# Altium footprint library OffTheClock.PcbLib: 26 footprints (part 2 of 2)
Each footprint in its own frame and in the unit in brackets; x right, y up, seen from the top. Pads: shape width x height; smd on the part's side, far side on the other; paste and mask are expansions set on the pad; w line width, h text height; cw(c..) or ccw(c..) is an arc to the next point about the centre after c.
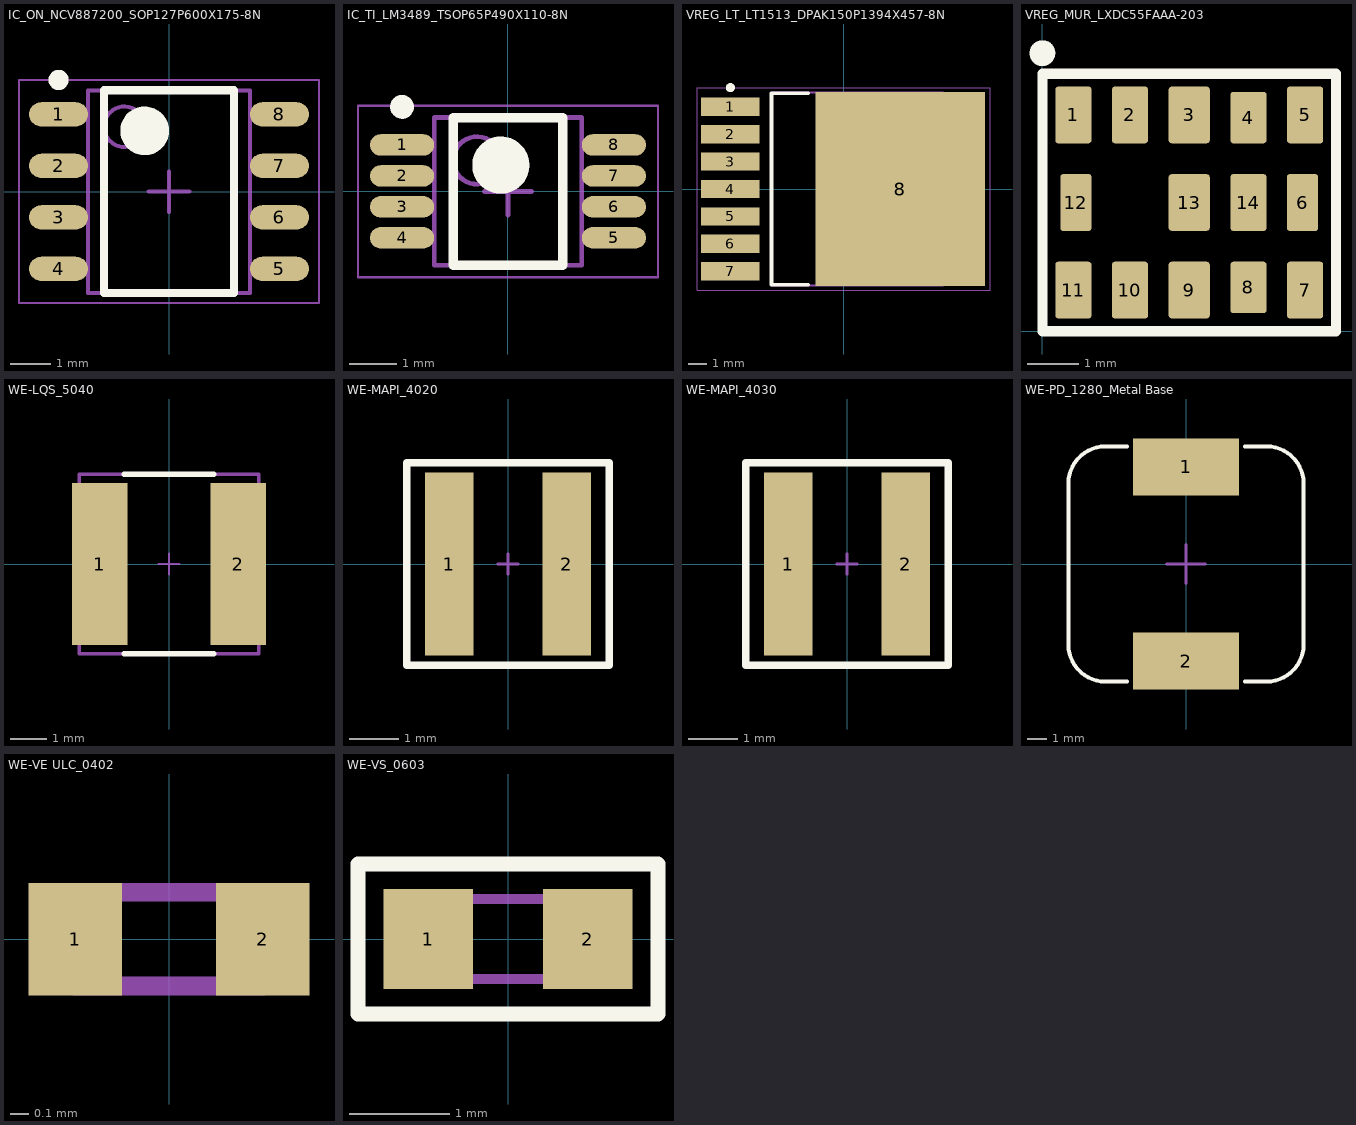
[diagram p1: the footprints below, top view; thin cyan lines are the x and y axes]

## IC_ON_NCV887200_SOP127P600X175-8N [mm] "SOP, 8-Leads, Body 4.90x3.90mm, Pitch 1.27mm, IPC Medium Density"
height 1.75
pads (8):
  oval 1.45x0.6 smd: 1(-2.725,1.905) 2(-2.725,0.635) 3(-2.725,-0.635) 4(-2.725,-1.905) 5(2.725,-1.905) 6(2.725,-0.635) 7(2.725,0.635) 8(2.725,1.905)
Top Overlay:
  circle w0.6: c-0.6,1.5 r0.3
  circle w0.25: c-2.725,2.755 r0.125
  lines w0.2: -1.6,-2.5 1.6,-2.5 1.6,2.5 -1.6,2.5 -1.6,-2.5
Mechanical 13:
  circle w0.1: c-1.1,1.6 r0.5
  lines w0.1: -2,-2.5 2,-2.5 2,2.5 -2,2.5 -2,-2.5
Mechanical 15:
  lines w0.05: -3.7,-2.75 3.7,-2.75 3.7,2.75 -3.7,2.75 -3.7,-2.75
  lines w0.1: -0.5,0 0.5,0 ; 0,-0.5 0,0.5
3D body: height 1.75, standoff 0.1, extent -2,-2.5 2,2.5

## IC_TI_LM3489_TSOP65P490X110-8N [mm] "TSOP, 8-Leads, Body 3.00x3.00mm, Pitch 0.65mm, IPC Medium Density"
height 1.1
pads (8):
  oval 1.35x0.45 smd: 1(-2.225,0.975) 2(-2.225,0.325) 3(-2.225,-0.325) 4(-2.225,-0.975) 5(2.225,-0.975) 6(2.225,-0.325) 7(2.225,0.325) 8(2.225,0.975)
Top Overlay:
  circle w0.25: c-2.225,1.775 r0.125
  circle w0.6: c-0.15,0.55 r0.3
  lines w0.2: -1.15,-1.55 -1.15,1.55 1.15,1.55 1.15,-1.55 -1.15,-1.55
Mechanical 13:
  circle w0.1: c-0.65,0.65 r0.5
  lines w0.1: -1.55,-1.55 -1.55,1.55 1.55,1.55 1.55,-1.55 -1.55,-1.55
Mechanical 15:
  lines w0.05: -3.15,-1.8 -3.15,1.8 3.15,1.8 3.15,-1.8 -3.15,-1.8
  lines w0.1: -0.5,0 0.5,0 ; 0,-0.5 0,0.5
3D body: height 1.1, standoff 0.05, extent -1.55,-1.55 1.55,1.55

## VREG_LT_LT1513_DPAK150P1394X457-8N [mm] "D2-PAK, 8-Pads, Body 7.80x8.63mm (max), IPC Medium Density"
height 4.58
pads (8):
  rect 3.2x1 smd: 1(-6.2,4.5) 2(-6.2,3) 3(-6.2,1.5) 4(-6.2,0) 5(-6.2,-1.5) 6(-6.2,-3) 7(-6.2,-4.5)
  rect 9.3x10.6 smd: 8(3.1,0)
Top Overlay:
  circle w0.25: c-6.2,5.55 r0.125
  lines w0.2: -1.95,-5.25 -3.95,-5.25 -3.95,5.25 -1.95,5.25
Mechanical 13:
  lines w0.1: -3.95,-5.275 -3.95,5.275 5.45,5.275 5.45,-5.275 -3.95,-5.275
Mechanical 15:
  lines w0.05: -8.025,-5.55 -8.025,5.55 8.025,5.55 8.025,-5.55 -8.025,-5.55
  lines w0.1: -0.5,0 0.5,0 ; 0,-0.5 0,0.5
3D body: height 4.58, standoff 0, extent -3.95,-5.275 5.45,5.275

## VREG_MUR_LXDC55FAAA-203 [mm]
height 2.1
pads (14):
  rrect15% 0.7x1.1 smd paste-4 mask+0.102: 1(0.6,4.2) 2(1.7,4.2) 5(5.1,4.2) 7(5.1,0.8) 10(1.7,0.8) 11(0.6,0.8) 14(4,2.5)
  rrect15% 0.8x1.1 smd paste-4 mask+0.102: 3(2.85,4.2) 9(2.85,0.8) 13(2.85,2.5)
  rrect15% 0.7x1 smd paste-4 mask+0.102: 4(4,4.15) 8(4,0.85)
  rrect15% 0.6x1.1 smd paste-4 mask+0.102: 6(5.05,2.5) 12(0.65,2.5)
Top Overlay:
  circle w0.25: c0,5.4 r0.125
  lines w0.2: 0,0 0,5 5.7,5 5.7,0 0,0

## WE-LQS_5040 [mm] "SMD Power Inductor, 2-Leads, body 5.0x5.0mm"
height 4
pads (2):
  rect 1.55x4.5 smd: 1(-1.925,0) 2(1.925,0)
Top Overlay:
  lines w0.15: -1.25,-2.5 1.25,-2.5 ; -1.25,2.5 1.25,2.5
Mechanical 13:
  lines w0.1: -2.5,-2.5 2.5,-2.5 2.5,2.5 -2.5,2.5 -2.5,-2.5
Mechanical 15:
  lines w0.05: -0.3,0 0.3,0 ; 0,-0.3 0,0.3
3D body "LQS_5040.stp": height 4.03, standoff 0.03, extent -2.5,-2.5 2.5,2.5

## WE-MAPI_4020 [mm] "SMD Shielded Power Inductor, 2-Leads, body 4.1x4.1"
height 2.1
pads (2):
  rect 0.98x3.7 smd: 1(-1.185,0) 2(1.185,0)
Top Overlay:
  lines w0.15: -2.05,-2.05 -2.05,2.05 2.05,2.05 2.05,-2.05 -2.05,-2.05
Mechanical 13:
  lines w0.1: -2.05,-2.05 2.05,-2.05 2.05,2.05 -2.05,2.05 -2.05,-2.05
Mechanical 15:
  lines w0.051: -0.203,0 0.203,0 ; 0,-0.203 0,0.203
3D body "WE-IndMAPI_SSMC-4020.stp": height 2.11, standoff 0.01, extent -2.05,-2.05 2.05,2.05

## WE-MAPI_4030 [mm] "SMD Shielded Power Inductor, 2-Leads, body 4.1x4.1"
height 3.1
pads (2):
  rect 0.98x3.7 smd: 1(-1.185,0) 2(1.185,0)
Top Overlay:
  lines w0.15: -2.05,-2.05 2.05,-2.05 2.05,2.05 -2.05,2.05 -2.05,-2.05
Mechanical 13:
  lines w0.1: -2.05,-2.05 -2.05,2.05 2.05,2.05 2.05,-2.05 -2.05,-2.05
Mechanical 15:
  lines w0.051: -0.203,0 0.203,0 ; 0,-0.203 0,0.203
3D body "IndMAPI_4030_74438357xxx.stp": height 3.11, standoff 0.01, extent -2.05,-2.05 2.05,2.05

## WE-PD_1280_Metal Base [mm] "SMD Inductor, 2-Leads, Body 12,0x12,0mm"
height 8
pads (2):
  rect 5.4x2.9 smd: 1(0,4.95) 2(0,-4.95)
Top Overlay:
  lines w0.2: -6.001,-4.1 ccw(c-4.101,-4.1) -4.101,-6 -3,-6 ; -6,-4.099 -6,4.1 cw(c-4.1,4.1) -4.1,6 -3,6 ; 2.999,-6 4.099,-6 ccw(c4.099,-4.101) 5.999,-4.1 5.999,4.099 ccw(c4.1,4.099) 4.1,5.999 3,5.999
Mechanical 15:
  lines w0.15: -1,0 1,0 ; 0,-1 0,1
3D body "WE-PD_1280_metal base_744770xxx.stp": height 8.04, standoff 0.04, extent -6,-6 6,6

## WE-VE ULC_0402 [mm] "0402, 2-Leads, Body 1.0x0.5mm, Pitch 1.5mm"
height 0.6
pads (2):
  rect 0.5x0.6 smd: 1(-0.5,0) 2(0.5,0)
Mechanical 13:
  lines w0.1: -0.5,-0.25 0.5,-0.25 0.5,0.25 -0.5,0.25 -0.5,-0.25
3D body "WE-VE-ULC-0402.stp": height 0.5, standoff 0, extent -0.5,-0.25 0.5,0.25

## WE-VS_0603 [mm] "0603, 2-Leads, Body 1.6x0.8mm, Pitch 1.6mm"
height 0.9
pads (2):
  rect 0.9x1 smd: 1(-0.8,0) 2(0.8,0)
Top Overlay:
  lines w0.15: -1.504,-0.754 -1.504,0.754 1.504,0.754 1.504,-0.754 -1.504,-0.754
Mechanical 13:
  lines w0.1: -0.8,-0.4 -0.8,0.4 0.8,0.4 0.8,-0.4 -0.8,-0.4
3D body "WE-VS_0603.stp": height 0.9, standoff 0, extent -0.8,-0.4 0.8,0.4